# Altium schematic symbol library Schematic_Switch.SchLib: 2 symbols
Pins are listed as number, name and electrical type; pins without a type are passive.

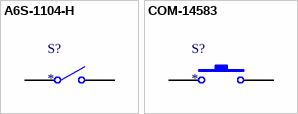
[diagram p0: symbols A6S-1104-H to COM-14583]

## A6S-1104-H
designator S?
OMRON ELECTRONIC COMPONENTS   A6S1104H   DIP / SIP Switch, SPST, DIP Unsealed, SMD, 25 mA, 24 VDC; Manufacturer Part Number: A6S-1104-H; Mechanical Life: 1000Cycles; Current Rating: 25mA; Voltage Rating (DC): 24V; Number of Positions: 1; Actuator Type: Slide (Standard); Pitch: 0.1inch; Washable: No; Supplier 1: Digi-Key; Manufacturer: Omron; Stock 1: 755; Pricing 1: 1=1.61000, 10=1.51700, 25=1.45520, 50=1.36220, 100=1.33130, 250=1.17648, 500=1.11456, 1000=0.99072, 5000=0.86688 (USD); RoHS: Yes; Mount: Surface Mount; Contact Plating: Gold; Contact Material: Gold; Min Operating Temperature: -20°C; Max Operating Temperature: 70°C; Package Quantity: 130; Throw Configuration: SPST; Max Current Rating: 25mA; Packaging: Rail/Tube; Max Voltage Rating (DC): 24V; Contact Current Rating: 25mA; Termination: Gull Wing; Electrical Life: 1000Cycles; Number of Circuits: 1; Orientation: Straight; Length: 0.137inch; Radiation Hardening: No; REACH SVHC: Unknown; ComponentLink1URL: https://datasheet.ciiva.com/1529/1763372-1529107.pdf?src-supplier=Element14; ComponentLink1Description: https://datasheet.ciiva.com/1529/1763372-1529107.pdf?src-supplier=Element14; ComponentLink2URL: https://datasheet.ciiva.com/2864/a6s-h-1110-2864554.pdf?src-supplier=Digi-Key; ComponentLink2Description: https://datasheet.ciiva.com/2864/a6s-h-1110-2864554.pdf?src-supplier=Digi-Key
footprint A6S-1104-H (OMRON ELECTRONIC COMPONENTS   A6S1104H   DIP / SIP Switch, SPST, DIP Unsealed, SMD, 25 mA, 24 VDC)
pins: 1 COMMON, 2 NO

## COM-14583
designator S?
Novelkeys Big Switch - Tactile; Manufacturer: SparkFun; Manufacturer Part Number: COM-14583; Supplier 1: Digi-Key; RoHS: No; Category: Pushbutton Switches; Stock 1: 5; Pricing 1: 1=33.75000 (USD)
footprint CPG151101D228 (NOVELKEYS BIG SWITCH BURNT ORANGE)
pins: 1, 2